# Altium schematic symbol library TLV61220.SchLib: 1 symbol
Pins are listed as number, name and electrical type; pins without a type are passive.

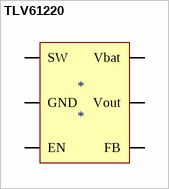
[diagram p0: symbol TLV61220]

## TLV61220
designator *
Low-Input Voltage Step-Up Converter in Thin SOT-23 Package
footprint SOT95P280X145-6N (SOT23, 6-Leads, Body 2.90x2.80mm, Pitch 0.95mm, IPC Medium Density)
pins: 1 SW, 2 GND, 3 EN, 4 FB, 5 Vout, 6 Vbat